# Altium schematic symbol library TinyShuffle v.0b.SCHLIB: 49 symbols
Pins are listed as number, name and electrical type; pins without a type are passive.

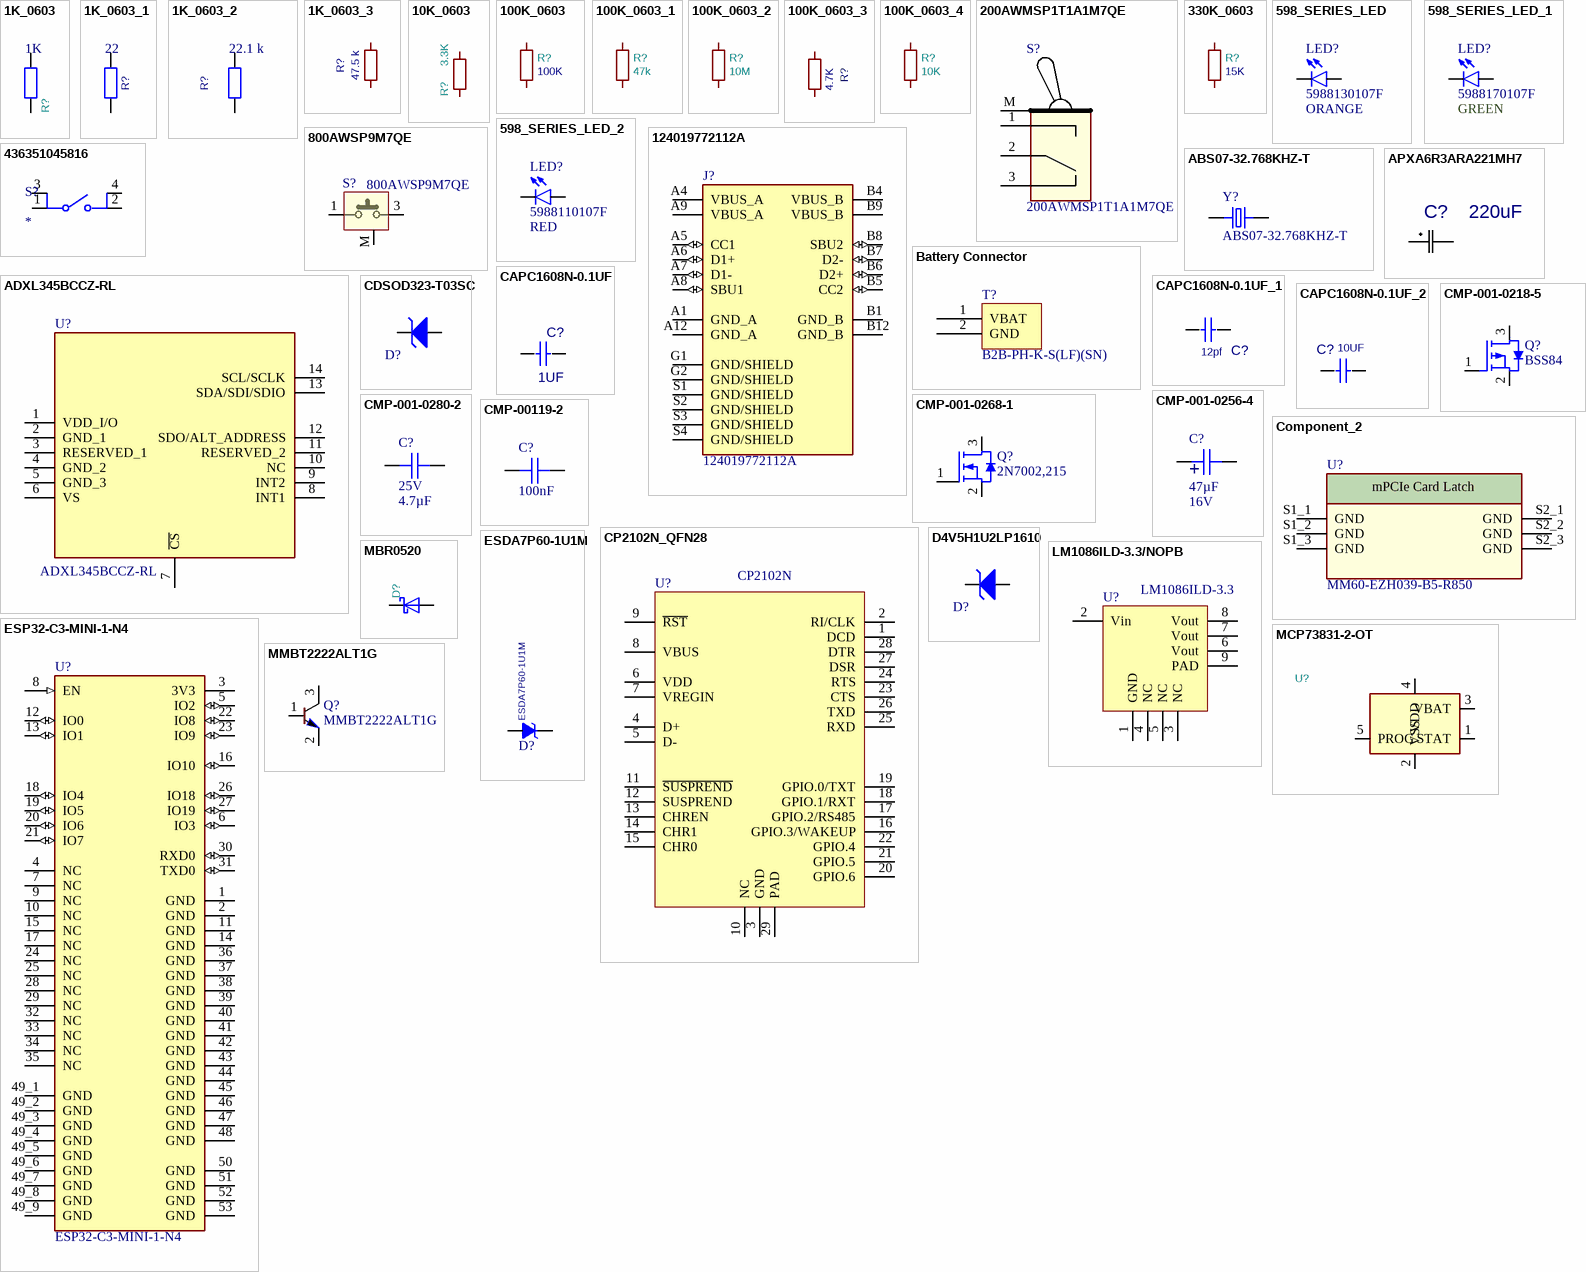
[diagram p0: symbols 1K_0603 to MMBT2222ALT1G]

## 1K_0603
designator R?, comment 1K
RES 1.00K OHM 1/10W 1% 0603 SMD; ManufacturerPartNumber: CRCW06031K00FKEAHP; Generic Part: no; Manufacturer: Vishay; Footprint: Resistor_SMD:R_0603_1608Metric; LCSC Part Number: *
footprint RES0603
pins: 1, 2

## 1K_0603_1
designator R?, comment 22
RES 22OHM 1/10W 1% 0603 SMD; ManufacturerPartNumber: RC0603FR-0722RL; Generic Part: no; Manufacturer: Yageo; Footprint: Resistor_SMD:R_0603_1608Metric; LCSC Part Number: *
footprint RES0603
pins: 1, 2

## 1K_0603_2
designator R?, comment 22.1 k
RES SMD 22.1K OHM 1% 1/10W 0603; ManufacturerPartNumber: CRCW060322K1FKEA; Manufacturer: Vishay; Footprint: Resistor_SMD:R_0603_1608Metric
footprint RES0603
pins: 1, 2

## 1K_0603_3
designator R?, comment 47.5 k
RES 47.5K OHM 1% 1/10W 0603; ManufacturerPartNumber: CRCW060347K5FKEAC; Manufacturer: Vishay; Value: 47.5 k; Footprint: Resistor_SMD:R_0603_1608Metric
footprint RES0603
pins: 1, 2

## 10K_0603
designator R?, comment 3.3K
Res General Purpose Thick Film 0603 3.3K Ohm 1% 1/10W ±100ppm/°C Molded SMD Paper T/R; ManufacturerPartNumber: CRCW06033K40FKEAHP; Generic Part: no; Manufacturer: Vishay; Value: 3.3K; Footprint: Resistor_SMD:R_0603_1608Metric; LCSC Part Number: *
footprint RES0603
pins: 1, 2

## 100K_0603
designator R?, comment 100K
Res General Purpose Thick Film 0603 100k Ohm 1% 1/10W ±100ppm/°C Molded; ManufacturerPartNumber: CRCW0603100KFKEAHP; Generic Part: no; Manufacturer: Vishay; Value: 100K; Footprint: Resistor_SMD:R_0603_1608Metric
footprint RES0603
pins: 1, 2

## 100K_0603_1
designator R?, comment 47K
RES SMD 47K OHM 1% 1/10W 0603; ManufacturerPartNumber: CRCW060347K0FKTA; Generic Part: no; Manufacturer: Vishay; Value: 47k; Footprint: Resistor_SMD:R_0603_1608Metric
footprint RES0603
pins: 1, 2

## 100K_0603_2
designator R?, comment 10M
Res Thick Film 0603 10M Ohm 1% 1/10W ±200ppm/°C Molded SMD SMD Paper T/R; Generic Part: YES; ManufacturerPartNumber: CRCW060310M0JNEA; Manufacturer: Vishay Dale; Value: 10M; Footprint: Resistor_SMD:R_0603_1608Metric
footprint RES0603
pins: 1, 2

## 100K_0603_3
designator R?, comment 4.7K
Thin Film Resistors - SMD 1/10W 4.7K ohm 1% 50ppm; ManufacturerPartNumber: RT0603FRE134K7L; Generic Part: no; Manufacturer: YAGEO; Footprint: Resistor_SMD:R_0603_1608Metric; Value: 4.7K
footprint RES0603
pins: 1, 2

## 100K_0603_4
designator R?, comment 10k
RES 10.0K OHM 1/10W 1% 0603 SMD Ro HS; ManufacturerPartNumber: RGA1608P-103-B-T1; Generic Part: no; Manufacturer: Susumu; Value: 10K; Footprint: Resistor_SMD:R_0603_1608Metric; Mouser Part Number: 754-RGA1608P-103BT1; ComponentLink1Description: Datasheet Link; ComponentLink1URL: https://componentsearchengine.com/Datasheets/1/RGA1608P-103-B-T1.pdf
footprint RES0603
pins: 1, 2

## 200AWMSP1T1A1M7QE
designator S?
SWITCH TOGGLE SPDT 3A 120V; Manufacturer: E-Switch; ManufacturerPartNumber: 200AWMSP1T1A1M7QE
footprint 200AWMSP1T1A1M7QE (SWITCH TOGGLE SPDT 3A 120V)
pins: 1, 2, 3, M

## 330K_0603
designator R?, comment value 15K  (hidden comment: 330K)
RES 15K OHM 1% 1/10W 0603; ManufacturerPartNumber: CRCW060315K0FKEAC; Generic Part: no; Manufacturer: Vishay; Footprint: Resistor_SMD:R_0603_1608Metric
footprint RES0603
pins: 1, 2

## 598_SERIES_LED
designator LED?, comment 5988130107F  value ORANGE
Orange 605nm LED Indication - Discrete 2V 0805 (2012 Metric); ManufacturerPartNumber: 598-8110-107F; Manufacturer: Dialight; SnapEDA_Link: https://www.snapeda.com/parts/598-8110-107F/Dialight/view-part/275124/?ref=snap; Price: None; Package: 0805 Dialight; Availability: Unavailable
footprint LEDC2012X70N
pins: A, C

## 598_SERIES_LED_1
designator LED?, comment 5988170107F  value GREEN
Green 566nm LED Indication - Discrete 2V 0805 (2012 Metric); ManufacturerPartNumber: 598-8110-107F; Manufacturer: Dialight; SnapEDA_Link: https://www.snapeda.com/parts/598-8110-107F/Dialight/view-part/275124/?ref=snap; Price: None; Package: 0805 Dialight; Availability: Unavailable
footprint LEDC2012X70N
pins: A, C

## 598_SERIES_LED_2
designator LED?, comment 5988110107F  value RED
Red 635nm LED Indication - Discrete 2.2V 0805 _2012 Metric_; ManufacturerPartNumber: 598-8110-107F; Manufacturer: Dialight; SnapEDA_Link: https://www.snapeda.com/parts/598-8110-107F/Dialight/view-part/275124/?ref=snap; Price: None; Package: 0805 Dialight; Availability: Unavailable
footprint LEDC2012X70N
pins: A, C

## 800AWSP9M7QE
designator S?
Pushbutton Switch SPST-NO Standard Through Hole, Right Angle, Vertical; ManufacturerPartNumber: 800AWSP8M7QE; Manufacturer: E-Switch
footprint 800AWSP9M7QE (SWITCH PUSH SPST-NO 1A 120V)
pins: 1, 3, M

## 124019772112A
designator J?
USB2.0, TOP MOUNT, R/A, 16 PIN, DUAL; Manufacturer: Amphenol Commercial Products; Value: *; Availability: Bad; Check_prices: https://www.snapeda.com/parts/124019772112A/Amphenol/view-part/4792123/?ref=eda; SnapEDA_Link: https://www.snapeda.com/parts/124019772112A/Amphenol/view-part/4792123/?ref=snap; Package: None; ManufacturerPartNumber: 124019772112A; Price: None
footprint AMPHENOL_124019772112A
pins: A1 GND_A (power), A4 VBUS_A (power), A5 CC1 (io), A6 D1+ (io), A7 D1- (io), A8 SBU1 (io), A9 VBUS_A (power), A12 GND_A (power), B1 GND_B (power), B4 VBUS_B (power), B5 CC2 (io), B6 D2+ (io), B7 D2- (io), B8 SBU2 (io), B9 VBUS_B (power), B12 GND_B (power), G1 GND/SHIELD (power), G2 GND/SHIELD (power), S1 GND/SHIELD (power), S2 GND/SHIELD (power), S3 GND/SHIELD (power), S4 GND/SHIELD (power)

## 436351045816
designator S?
Tactile Switch SPST-NO Side Actuated Surface Mount, Right Angle; MPN: 436351045816; MF: Wurth Elektronik
footprint 436351045816
pins: 1 3, 2 4, 3 1, 4 2

## ABS07-32.768KHZ-T
designator Y?
32.768kHz Â±20ppm Crystal 12.5pF 70 kOhms 2-SMD, No Lead; Manufacturer: Abracon LLC; Price: None; Value: *; Package: SMD-2 Abracon; Availability: Unavailable; SnapEDA_Link: https://www.snapeda.com/parts/ABS07-32.768KHZ/Abracon%20LLC/view-part/448682/?ref=snap; ManufacturerPartNumber: ABS07-32.768KHZ
footprint XTAL_ABS07-32.768KHZ-T
pins: 1, 2

## ADXL345BCCZ-RL
designator U?
3-Axis, ±2 g/±4 g/±8 g/±16 g Digital Accelerometer; Manufacturer: Analog Devices; Datasheet Link: https://www.analog.com/media/en/technical-documentation/data-sheets/ADXL345.pdf; Height: 1mm; ManufacturerPartNumber: ADXL345BCCZ-RL; Mouser Part Number: 584-ADXL345BCCZ-R; Mouser Price/Stock: https://www.mouser.co.uk/ProductDetail/Analog-Devices/ADXL345BCCZ-RL?qs=WIvQP4zGangSXrz9XHbgiA%3D%3D; Arrow Part Number: ADXL345BCCZ-RL; Arrow Price/Stock: https://www.arrow.com/en/products/adxl345bccz-rl/analog-devices?region=nac
footprint ADXL345BCCZRL
pins: 1 VDD_I/O, 2 GND_1, 3 RESERVED_1, 4 GND_2, 5 GND_3, 6 VS, 7 ~{CS}, 8 INT1, 9 INT2, 10 NC, 11 RESERVED_2, 12 SDO/ALT_ADDRESS, 13 SDA/SDI/SDIO, 14 SCL/SCLK

## APXA6R3ARA221MH7
designator C?  value 220uF  (hidden comment: APXA6R3ARA221MH7)
CAP ALUM POLY 220UF 20% 6.3V SMD; Manufacturer: Nippon Chemi-Con; ManufacturerPartNumber: APXA6R3ARA221MH70G; C: Copyright (C) 2015 Accelerated Designs. All rights reserved; Copyright: Copyright (C) 2022 Ultra Librarian. All rights reserved.; Digi-Key_Part_Number_1: 565-3114-1-ND; Digi-Key_Part_Number_2: 565-3114-2-ND; Digi-Key_Part_Number_3: 565-3114-2-NDL; Digi-Key_Part_Number_4: 565-3114-6-ND
footprint CHEMI-H70
pins: 1, 2
1 alternate drawing of the same symbol

## Battery Connector
designator T?, comment B2B-PH-K-S(LF)(SN)
Connector Header, PH Series, 2 Position, 2.00mm, Through Hole, Press-Fit, Solder, Natural; Manufacturer: JST Sales America Inc.; ManufacturerPartNumber: B2B-PH-K-S(LF)(SN)
footprint Battery Connector
footprint JST_B2B-PH-K-S(LF)(SN)
pins: 1 VBAT, 2 GND

## CAPC1608N-0.1UF
designator C?, comment value 1UF  (hidden comment: CAPC1608N-1UF)
CAP CER 1UF 25V X7R 0603; Manufacturer: TDK Corporation; ManufacturerPartNumber: CGA3E2X7R1E104K080AA; PCB DECAL: CAPC1608X55N; Mouser Part Number: 963-TMF212B7104KGHT; Mouser Price/Stock: https://www2.mouser.com/ProductDetail/Taiyo-Yuden/TMF212B7104KGHT?qs=%252B6g0mu59x7Jv7XISa3hIWA%3D%3D; LCSC Part Number: *
footprint 0603 Capacitor
pins: 1, 2

## CAPC1608N-0.1UF_1
designator C?, comment value 12pf  (hidden comment: CAPC1608N-12PF)
CAP CER 12PF NP0 0603; Manufacturer: TDK Corporation; ManufacturerPartNumber: CGA3E2X7R1E104K080AA; PCB DECAL: CAPC1608X55N; Mouser Part Number: 963-TMF212B7104KGHT; Mouser Price/Stock: https://www2.mouser.com/ProductDetail/Taiyo-Yuden/TMF212B7104KGHT?qs=%252B6g0mu59x7Jv7XISa3hIWA%3D%3D; LCSC Part Number: *
footprint 0603 Capacitor
pins: 1, 2

## CAPC1608N-0.1UF_2
designator C?, comment value 10UF  (hidden comment: GRM188R61E106MA73D)
25V 10UF X5R ±20% 0603 MLCC; Manufacturer: TDK Corporation; ManufacturerPartNumber: CGA3E2X7R1E104K080AA; PCB DECAL: CAPC1608X55N; Mouser Part Number: 963-TMF212B7104KGHT; Mouser Price/Stock: https://www2.mouser.com/ProductDetail/Taiyo-Yuden/TMF212B7104KGHT?qs=%252B6g0mu59x7Jv7XISa3hIWA%3D%3D; LCSC Part Number: *
footprint 0603 Capacitor
pins: 1, 2

## CDSOD323-T03SC
designator D?  (value not drawn)
TVS DIODE 3.3VWM 10.9VC SOD323; Manufacturer: Bourns Inc.; Voltage - Reverse Standoff (Typ): 3.3V; Voltage - Breakdown (Min): 4V; Voltage - Clamping (Max) @ Ipp: 10.9V (Typ); Current - Peak Pulse (10/1000µs): 43A (8/20µs); Capacitance @ Frequency: 200pF @ 1MHz; MPN: CDSOD323-T03SC; ComponentLink1Description: Datasheet; ComponentLink1URL: https://www.mccsemi.com/pdf/Products/ESDLC3V3D3~ESDLC12VD3(SOD-323).pdf; ComponentLink2Description: Digikey; ComponentLink2URL: https://www.digikey.com/en/products/detail/micro-commercial-co/ESDLC3V3D3-TP/2512797; ComponentLink3Description: Mouser; ComponentLink3URL: https://eu.mouser.com/ProductDetail/Micro-Commercial-Components-MCC/ESDLC3V3D3-TP?qs=tWhVDKcjDQFO%252BZgFf6OwKw%3D%3D
footprint SOD2513X120N
pins: A, K

## CMP-001-0218-5
designator Q?, comment BSS84
P-Channel 50 V 130mA (Ta) 225mW (Ta) Surface Mount SOT-23-3; Manufacturer: MDD; Vgs: 2V @ 250µA; Vgs (MAX): 20V; Rds @ Id, Vgs: 8Ohm @ 100mA, 10V; Op Temp min: -55°C; Drain to Source Voltage (Vdss): 50V; Input Capacitance (Ciss) (Max) @ Vds: 30 pF @ 5V; Op Temp max: 150°C; Package: SOT-23-3; ComponentLink3URL: https://www.digikey.com/en/products/detail/nextgen-components/BSS84/14288074; ComponentLink1Description: Datasheet; Mounting Type: SM; Technology: MOSFET; Height max: 1.12mm; FET Type: P-Channel; ManufacturerPartNumber: BSS84; Pmax: 225mW; ComponentLink3Description: Digikey; ComponentLink2URL: https://eu.mouser.com/ProductDetail/Vishay-Semiconductors/SI2325DS-T1-E3?qs=jcx%252B0HVgj2ZrYzLJS1OITQ%3D%3D; Size: 2.9x2.3; ComponentLink2Description: Mouser; Current - Continuous Drain (Id) @ 25°C: 130mA; ComponentLink1URL: https://www.vishay.com/docs/73238/73238.pdf; Component Type: FETs, MOSFETs Single
footprint SOT23-3P95_237X112L50X40L (SOT-23-3 2.9x1.3x1.1 p0.95 (JEDEC TO-236AB))
pins: 1, 2, 3

## CMP-001-0256-4
designator C?, comment Capacitance: 47µF  Voltage Rating: 16V  (hidden comment: EEE-HC1C470P)
CAP ALUM 47UF 20% 16V SMD; Manufacturer: Panasonic Electronic Components; Op Temp min: -40°C; Ripple Current LF: 70mA; Op Temp max: 105°C; Ripple Current HF: 119mA; ESR: 0; Polarization: Polar; Lifetime @ Temp: 2000 @ 105°C; ComponentLink1Description: Datasheet; Tolerance: 20%; ComponentLink3Description: Digikey; ComponentLink3URL: https://www.digikey.com/en/products/detail/panasonic-electronic-components/EEE-HC1C470P/672803; ComponentLink1URL: https://industrial.panasonic.com/ww/products/pt/aluminum-cap-smd/models/EEEHC1C470P; Package: Radial, Can - SMD; ComponentLink2URL: https://eu.mouser.com/ProductDetail/Panasonic/EEE-HC1C470P?qs=Ywefl8B65e7ZawU5JGnjng%3D%3D; Lead Spacing: 0mm; MPN: EEE-HC1C470P; Impedance: 0; Height max: 5.8mm; Mounting Type: SM; ComponentLink2Description: Mouser; Ratings: AEC-Q200; Size: Dia 6.30mm; Component Type: Aluminum Electrolytic Capacitors
footprint CAPAE660X580L260X65L (Panasonic Size D (D6.3 H5.8) SM)
pins: 1, 2
text: +

## CMP-001-0268-1
designator Q?, comment 2N7002,215
Power MOSFET, N Channel, 60 V, 300 mA, 2.8 ohm, SOT-23, Surface Mount; Manufacturer: Nexperia USA Inc.; Op Temp max: 150°C; Current - Continuous Drain (Id) @ 25°C: 360mA; Drain to Source Voltage (Vdss): 60V; FET Type: N-Channel; Input Capacitance (Ciss) (Max) @ Vds: 50 pF @ 10 V; Pmax: 350mW; Op Temp min: -55°C; Rds @ Id, Vgs: 1.6Ohm @ 500mA, 10V; Vgs (MAX): 20; Vgs: 2.4V; ComponentLink1URL: https://assets.nexperia.com/documents/data-sheet/2N7002P.pdf; Size: 2.9x2.3; ComponentLink1Description: Datasheet; ComponentLink2Description: Mouser; Mounting Type: SM; ComponentLink2URL: https://eu.mouser.com/ProductDetail/Nexperia/2N7002P235?qs=A1cBxND5mHJjAcok1kSTYw%3D%3D; Height max: 1.1mm; Package: SOT-23-3; ManufacturerPartNumber: 2N7002,215; Technology: MOSFET; ComponentLink3Description: Digikey; ComponentLink3URL: https://www.digikey.com/en/products/detail/nexperia-usa-inc/2N7002-215/762973; Component Type: FETs, MOSFETs Single
footprint SOT23-3P95_237X112L50X40L (SOT-23-3 2.9x1.3x1.1 p0.95 (JEDEC TO-236AB))
pins: 1, 2, 3

## CMP-001-0280-2
designator C?, comment Voltage Rating: 25V  Capacitance: 4.7µF  (hidden comment: GRM188R61E475KE11D)
CAP CER 4.7UF 25V X5R 0603; Manufacturer: Murata Electronics; Tolerance: 10%; Op Temp max: 85°C; Op Temp min: -55°C; Lead Spacing: 0mm; ComponentLink1URL: https://www.murata.com/-/media/webrenewal/support/library/catalog/products/capacitor/ceramiccapacitor/c02e.ashx?la=en-us&cvid=20210120024548000000; ComponentLink2URL: https://eu.mouser.com/ProductDetail/Murata-Electronics/GRM188R61E475KE11D?qs=eeBpzGFlv%252B9M0HqzMo%2FgYw%3D%3D; ComponentLink2Description: Mouser; Size: 1.60mm x 0.80mm; Dielectric: X5R; Package: 0603 (1608 Metric); ComponentLink1Description: Datasheet; ComponentLink3URL: https://www.digikey.com/en/products/detail/murata-electronics/GRM188R61E475KE11D/3900465; Ratings: -; Mounting Type: SM; Height max: 800µm; ManufacturerPartNumber: GRM188R61E475KE11D; ComponentLink3Description: Digikey; Component Type: Ceramic Capacitor
footprint CAPC160X80X90L35L (EIA 0603 (1608) T0.9 1.6x0.8x0.9)
pins: 1, 2

## CMP-00119-2
designator C?, comment Capacitance: 100nF  (hidden comment: CL10B104KB8NNWC)
CAP CER 0.1UF 50V X7R 0603; Manufacturer: Samsung Electro-Mechanics; Op Temp min: -55°C; Tolerance: 10%; Op Temp max: 125°C; Voltage Rating: 50V; ComponentLink3URL: https://www.digikey.com/en/products/detail/samsung-electro-mechanics/CL10B104KB8NNWC/3887593; Dielectric: X7R; Ratings: -; Size: 1.60mm x 0.80mm; ComponentLink1Description: Datasheet; ComponentLink2Description: Mouser; ComponentLink3Description: Digikey; ComponentLink1URL: http://product.samsungsem.com/mlcc/CL10B104KB8NNW.do; ComponentLink2URL: https://eu.mouser.com/ProductDetail/Samsung-Electro-Mechanics/CL10B104KB8NNWC?qs=%2Fha2pyFaduh3vwrZSGoh3Z6Gj3oVa1Y%2Fpd7iGPjF01jpt%2F6TY3kdMw%3D%3D; ManufacturerPartNumber: CL10B104KB8NNWC; Package: 0603 (1608 Metric); Mounting Type: SM; Height max: 900µm; Lead Spacing: 0mm; Component Type: Ceramic Capacitor
footprint CAPC160X80X90L35L (EIA 0603 (1608) T0.9 1.6x0.8x0.9)
pins: 1, 2

## Component_2
designator U?, comment MM60-EZH039-B5-R850
CONN MINI EXPRESS CARD LATCH SMD; Manufacturer: JAE Electronics; ManufacturerPartNumber: MM60-EZH039-B5-R850
footprint m.2
pins: S1_1 GND (power), S1_2 GND (power), S1_3 GND (power), S2_1 GND (power), S2_2 GND (power), S2_3 GND (power)
text: mPCIe Card Latch

## CP2102N_QFN28
designator U?, comment CP2102N
IC USB TO UART BRIDGE QFN28; ManufacturerPartNumber: CP2102N-A02-GQFN28R; Manufacturer: Silicon Labs
footprint QFN-28 (QFN, 28-Leads, Body 5,00x5,00mm, Pitch 0,50mm, Thermal Pad 3,20x3,20mm, IPC High Density)
pins: 1 DCD, 2 RI/CLK, 3 GND, 4 D+, 5 D-, 6 VDD, 7 VREGIN, 8 VBUS, 9 ~{RST}, 10 NC, 11 ~{SUSPREND}, 12 SUSPREND, 13 CHREN, 14 CHR1, 15 CHR0, 16 GPIO.3/WAKEUP, 17 GPIO.2/RS485, 18 GPIO.1/RXT, 19 GPIO.0/TXT, 20 GPIO.6, 21 GPIO.5, 22 GPIO.4, 23 CTS, 24 RTS, 25 RXD, 26 TXD, 27 DSR, 28 DTR, 29 PAD

## D4V5H1U2LP1610
designator D?
TVS DIODE 4.5VWM 11.5VC 2DFN; Manufacturer: Diodes Incorporated; Manufacturer P/N: D4V5H1U2LP1610-7; Package: 0603 (1610 Metric); Supplier1Link: https://www.digikey.com/en/products/detail/diodes-incorporated/D4V5H1U2LP1610-7/7930772; SupplierPartNumber1: D4V5H1U2LP1610-7DITR-ND; Supplier2Link: https://eu.mouser.com/ProductDetail/Toshiba/DF2S5M4SLL3F?qs=%2Fha2pyFadugazQ7Ii9WaOlqFLYbzv3g3pgw7eYb36DDbtL8fsKKyeQ%3D%3D; SupplierPartNumber2: 757-DF2S5M4SLL3F
footprint CHIP D 0201 (STMicroelectronics 0201 chip Diode)
pins: 1 K, 2 A

## ESDA7P60-1U1M
designator D?
TVS DIODE 5V 11.6V 1610; Manufacturer: STMicroelectronics; Group: Diode; ManufacturerPartNumber: ESDA7P60-1U1M; MPN: ESDA7P60-1U1M; Supplier 1: Digi-Key; Supplier 1 Link: https://www.digikey.com/en/products/detail/stmicroelectronics/ESDA7P60-1U1M/5768408?s=N4IgTCBcDaIKIGUAiBBA7ABQGwAYC0AjAKoECyIAugL5A; Supplier 1 Part Number: 497-16253-2-ND; Value: ESDA7P60-1U1M; Price: 0.07875; Package/Case: 1610
footprint ST_1610
pins: 1 K, 2 A

## ESP32-C3-MINI-1-N4
designator U?
Bluetooth, WiFi 802.11b/g/n, Bluetooth v5.0 Transceiver Module 2.412GHz ~ 2.484GHz PCB Trace Surface Mount; Manufacturer: Espressif Systems; Purchase-URL: https://pricing.snapeda.com/search/part/ESP32-C3-MINI-1-N4/?ref=eda; Value: *; Package: SMD-53 Espressif Systems; Check_prices: https://www.snapeda.com/parts/ESP32-C3-MINI-1-N4/Espressif+Systems/view-part/?ref=eda; Price: None; Availability: In Stock; ManufacturerPartNumber: ESP32-C3-MINI-1-N4; SnapEDA_Link: https://www.snapeda.com/parts/ESP32-C3-MINI-1-N4/Espressif+Systems/view-part/?ref=snap
footprint XCVR_ESP32-C3-MINI-1-N4
pins: 1 GND (power), 2 GND (power), 3 3V3 (power), 4 NC, 5 IO2 (io), 6 IO3 (io), 7 NC, 8 EN (in), 9 NC, 10 NC, 11 GND (power), 12 IO0 (io), 13 IO1 (io), 14 GND (power), 15 NC, 16 IO10 (io), 17 NC, 18 IO4 (io), 19 IO5 (io), 20 IO6 (io), 21 IO7 (io), 22 IO8 (io), 23 IO9 (io), 24 NC, 25 NC, 26 IO18 (io), 27 IO19 (io), 28 NC, 29 NC, 30 RXD0 (io), 31 TXD0 (io), 32 NC, 33 NC, 34 NC, 35 NC, 36 GND (power), 37 GND (power), 38 GND (power), 39 GND (power), 40 GND (power), 41 GND (power), 42 GND (power), 43 GND (power), 44 GND (power), 45 GND (power), 46 GND (power), 47 GND (power), 48 GND (power), 49_1 GND (power), 49_2 GND (power), 49_3 GND (power), 49_4 GND (power), 49_5 GND (power), 49_6 GND (power), 49_7 GND (power), 49_8 GND (power), 49_9 GND (power), 50 GND (power), 51 GND (power), 52 GND (power), 53 GND (power)

## LM1086ILD-3.3/NOPB
designator U?, comment LM1086ILD-3.3
IC REG LINEAR 3.3V 1.5A 8WSON; ManufacturerPartNumber: LM1086ILD-3.3/NOPB; Manufacturer: Texas Instruments
footprint WSON-8 (SON, 8-Leads, Body 4,00x4,00mm, Pitch 0,80mm, Thermal Pad 2,20x2,29mm, IPC High Density)
pins: 1 GND, 2 Vin, 3 NC, 4 NC, 5 NC, 6 Vout, 7 Vout, 8 Vout, 9 PAD

## MBR0520
designator D?, comment MBR120  (value not drawn)
20V 600mV@1A 1A SOD-123 Schottky Barrier Diodes (SBD) ROHS; ManufacturerPartNumber: LMBR120FT1G; Generic Part: no; Manufacturer: ON; Footprint: Diode_SMD:D_SOD-123; LCSC Part Number: C81143
footprint SODFL3616X98N
pins: 1 K, 2 A

## MCP73831-2-OT
designator U?, comment MCP73831T-2ACI/OT  (value not drawn)
IC BATT CNTL LI-ION 1CEL SOT23-5; Generic Part: no; Manufacturer: Microchip Technology; ManufacturerPartNumber: MCP73831T-2ACI/OT; Footprint: Package_TO_SOT_SMD:SOT-23-5; LCSC Part Number: *
footprint SOT95P270X145-5N
pins: 1 STAT, 2 VSS, 3 VBAT, 4 VDD, 5 PROG

## MMBT2222ALT1G
designator Q?
Integrated Circuit; Manufacturer: ON Semiconductor; Datasheet Link: http://www.onsemi.com/pub/Collateral/MMBT2222LT1-D.PDF; Height: 1.11mm; ManufacturerPartNumber: MMBT2222ALT1G; Arrow Part Number: MMBT2222ALT1G; Arrow Price/Stock: https://www.arrow.com/en/products/mmbt2222alt1g/on-semiconductor; Mouser Part Number: 863-MMBT2222ALT1G; Mouser Price/Stock: https://www.mouser.co.uk/ProductDetail/ON-Semiconductor/MMBT2222ALT1G?qs=HVbQlW5zcXWwnD7Jokybqg%3D%3D; LCSC Part Number: C82460
footprint SOT96P237X111-3N
pins: 1 B, 2 E, 3 C

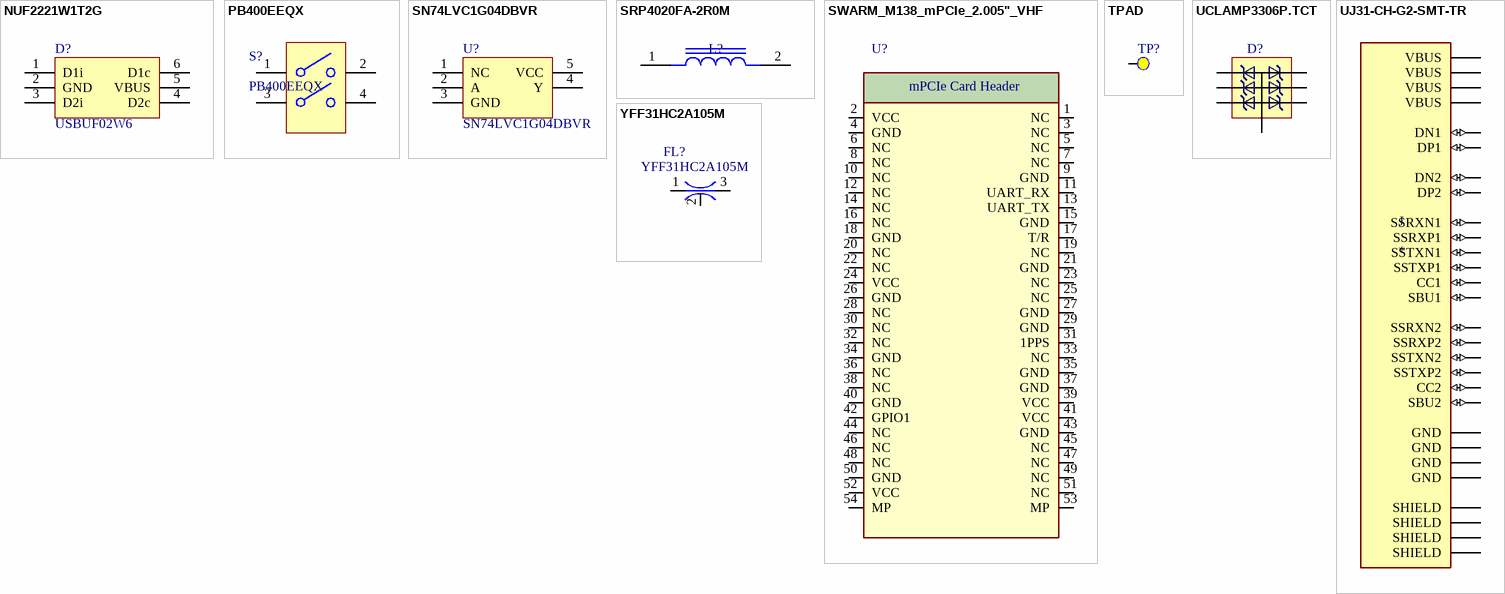
[diagram p1: symbols NUF2221W1T2G to YFF31HC2A105M]

## NUF2221W1T2G
designator D?, comment USBUF02W6
FILTER RC(PI) 22 OHM/47PF SMD; Manufacturer: STMicroelectronics; Group: Diode; ManufacturerPartNumber: USBUF02W6; Value: USBUF02W6; Supplier 1 Link: https://www.digikey.com/en/products/detail/stmicroelectronics/USBUF02W6/686422; Supplier 1 Part Number: 497-3743-2-ND; Supplier 1: Digi-Key; Price: 0.8; Package/Case: SOT363
footprint SOT323-6L (SOT23, 6-Leads, Body 2,00x2,10mm, Pitch 0,65mm, IPC High Density)
pins: 1 D1i, 2 GND, 3 D2i, 4 D2c, 5 VBUS, 6 D1c

## PB400EEQX
designator S?
Pushbutton Switch DPST Standard Through Hole, Right Angle; Manufacturer: E-Switch; MPN: PB400EEQX
footprint SW_PB400EEQX
pins: 1, 2, 3, 4

## SN74LVC1G04DBVR
designator U?
Inverter IC 1 Channel - SOT-23-5; Manufacturer: Texas Instruments; Datasheet Link: http://www.ti.com/lit/gpn/sn74lvc1g04; Height: 1.45mm; ManufacturerPartNumber: SN74LVC1G04DBVR; Arrow Part Number: SN74LVC1G04DBVR; Arrow Price/Stock: https://www.arrow.com/en/products/sn74lvc1g04dbvr/texas-instruments; Mouser Part Number: 595-SN74LVC1G04DBVR; Mouser Price/Stock: https://www.mouser.co.uk/ProductDetail/Texas-Instruments/SN74LVC1G04DBVR?qs=AMJt07B76utiScZvQx5a7w%3D%3D; LCSC Part Number: C7827
footprint SOT95P270X145-5N
pins: 1 NC, 2 A, 3 GND (power), 4 Y, 5 VCC (power)

## SRP4020FA-2R0M
designator L?  (value not drawn)
2 µH Shielded Drum Core, Wirewound Inductor 8.2 A 23.3mOhm Max Nonstandard -; MF: Bourns Inc.; Tolerance: 20%; Current Rating (Amps): 8.2 A; Current - Saturation (Isat): 4А; Q @ Freq: 15 @ 100kHz; Frequency - Self Resonant: 40MHz; Package: Nonstandard Bourns Inc.; MP: SRP4020FA-2R0M; DC Resistance (DCR), Max: 23.3mOhm; Operating Temperature: -55°C ~ 155°C; Parameter 1: *
footprint IND_SRP4020FA-1R0M
pins: 1, 2

## SWARM_M138_mPCIe_2.005"_VHF
designator U?, comment MM60-52B1-B1-R850  (value not drawn)
SWARM M138 MODEM mPCIe 2.005" (50.925mm) x 1.18" (30mm)  Two part connector; Manufacturer: JAE Electronics; SPECIAL_INSTRUCTIONS: A: MM60-52B1-B1-R850 B: MM60-EZH039-B5-R850; TEMP: -40°C ~ 85°C; Size: mPCIe; Supplier: Digikey; Supplier P/N: A: 670-2274-2-ND B: 670-2276-2-ND; Type: CONN; MANUF1 P/N: A: MM60-52B1-B1-R850 B: MM60-EZH039-B5-R850; ManufacturerPartNumber: MM60-52B1-B1-R850
footprint RF_VHF_JAE_MM60-52B1-B1-R850_MM60-EZH039-B5-R850_w_2005_mPCIe_card
footprint MM60-52B1-B1-R850 (PCIE CARD CONNECTOR)
pins: 1 NC (oc), 2 VCC (power), 3 NC, 4 GND (power), 5 NC, 6 NC, 7 NC (oc), 8 NC, 9 GND (power), 10 NC, 11 UART_RX, 12 NC, 13 UART_TX, 14 NC, 15 GND (power), 16 NC, 17 T/R, 18 GND (power), 19 NC, 20 NC, 21 GND (power), 22 NC, 23 NC, 24 VCC, 25 NC, 26 GND (power), 27 GND (power), 28 NC, 29 GND (power), 30 NC, 31 1PPS, 32 NC, 33 NC, 34 GND (power), 35 GND (power), 36 NC, 37 GND (power), 38 NC, 39 VCC (power), 40 GND (power), 41 VCC (power), 42 GPIO1, 43 GND (power), 44 NC, 45 NC, 46 NC, 47 NC, 48 NC, 49 NC, 50 GND (power), 51 NC, 52 VCC (power), 53 MP (power), 54 MP (power)
1 alternate drawing of the same symbol
text: mPCIe Card Header

## TPAD
designator TP?  (value not drawn)  (no BOM)
Test Pad, SMD; Group: Test point
footprint PAD_2.0R (Pad, SMD, R=2.0 mm)
pins: 1 TPoint

## UCLAMP3306P.TCT
designator D?  (value not drawn)
TVS DIODE 3.3V 8V SLP1616P6; Manufacturer: Semtech; ManufacturerPartNumber: UCLAMP3306P.TCT; Group: Diode; Value: UCLAMP3306P.TCT; Supplier 1 Link: https://www.mouser.co.uk/ProductDetail/Semtech/UCLAMP3306PTCT?qs=sGAEpiMZZMvxHShE6Whpu05L4sgaWrd7w3EbVo7phXk%3D; Supplier 1 Part Number: 947-UCLAMP3306P.TCT; Supplier 1: Mouser; Price: 0.337; Package/Case: 6-UFDFN Exposed Pad
footprint SLP1616P6 (SON50P160X160X65-7N)
pins: 1 C1, 2 C2, 3 C3, 4 C4, 5 C5, 6 C6, 7 Anode

## UJ31-CH-G2-SMT-TR
designator J
Type C, USB 3.1 Gen 2, 5 A, Right Angle, Surface Mount _SMT_, USB Receptacle; MP: UJ31-CH-G2-SMT-TR; MF: CUI Devices; Availability: Unavailable; SnapEDA_Link: https://www.snapeda.com/parts/UJ31-CH-G2-SMT-TR/CUI%20Devices/view-part/2463468/?ref=snap; Package: None; Price: None; Value: *
footprint CUI_UJ31-CH-G2-SMT-TR
pins: A1 GND (power), A2 SSTXP1 (io), A3 SSTXN1 (io), A4 VBUS (power), A5 CC1 (io), A6 DP1 (io), A7 DN1 (io), A8 SBU1 (io), A9 VBUS (power), A10 SSRXN2 (io), A11 SSRXP2 (io), A12 GND (power), B1 GND (power), B2 SSTXP2 (io), B3 SSTXN2 (io), B4 VBUS (power), B5 CC2 (io), B6 DP2 (io), B7 DN2 (io), B8 SBU2 (io), B9 VBUS (power), B10 SSRXN1 (io), B11 SSRXP1 (io), B12 GND (power), SH1 SHIELD (power), SH2 SHIELD (power), SH3 SHIELD (power), SH4 SHIELD (power)

## YFF31HC2A105M
designator FL?
1ÂµF Feed Through Capacitor 100V 6A 5mOhm 1206 (3216 Metric), 4 PC Pad; Manufacturer: TDK; ManufacturerPartNumber: YFF31HC2A105M; Package: 0402 TDK; SnapEDA_Link: https://www.snapeda.com/parts/YFF31HC2A105M/TDK/view-part/566442/?ref=snap; Value: *; Check_prices: https://www.snapeda.com/parts/YFF31HC2A105M/TDK/view-part/566442/?ref=eda; Purchase-URL: https://pricing.snapeda.com/search/part/YFF31HC2A105M/?ref=eda; Digi-Key_Part_Number: 445-16151-1-ND
footprint FIL_YFF31HC2A105M
footprint FIL_YFF31HC2A105M
pins: 1 IN/OUT, 2, 3 OUT/IN